# Altium footprint library DIP-JP NO 0607.PCBLIB: 61 footprints (part 2 of 4)
Each footprint in its own frame and in the unit in brackets; x right, y up, seen from the top. Pads: shape width x height; smd on the part's side, far side on the other; paste and mask are expansions set on the pad; w line width, h text height; cw(c..) or ccw(c..) is an arc to the next point about the centre after c.
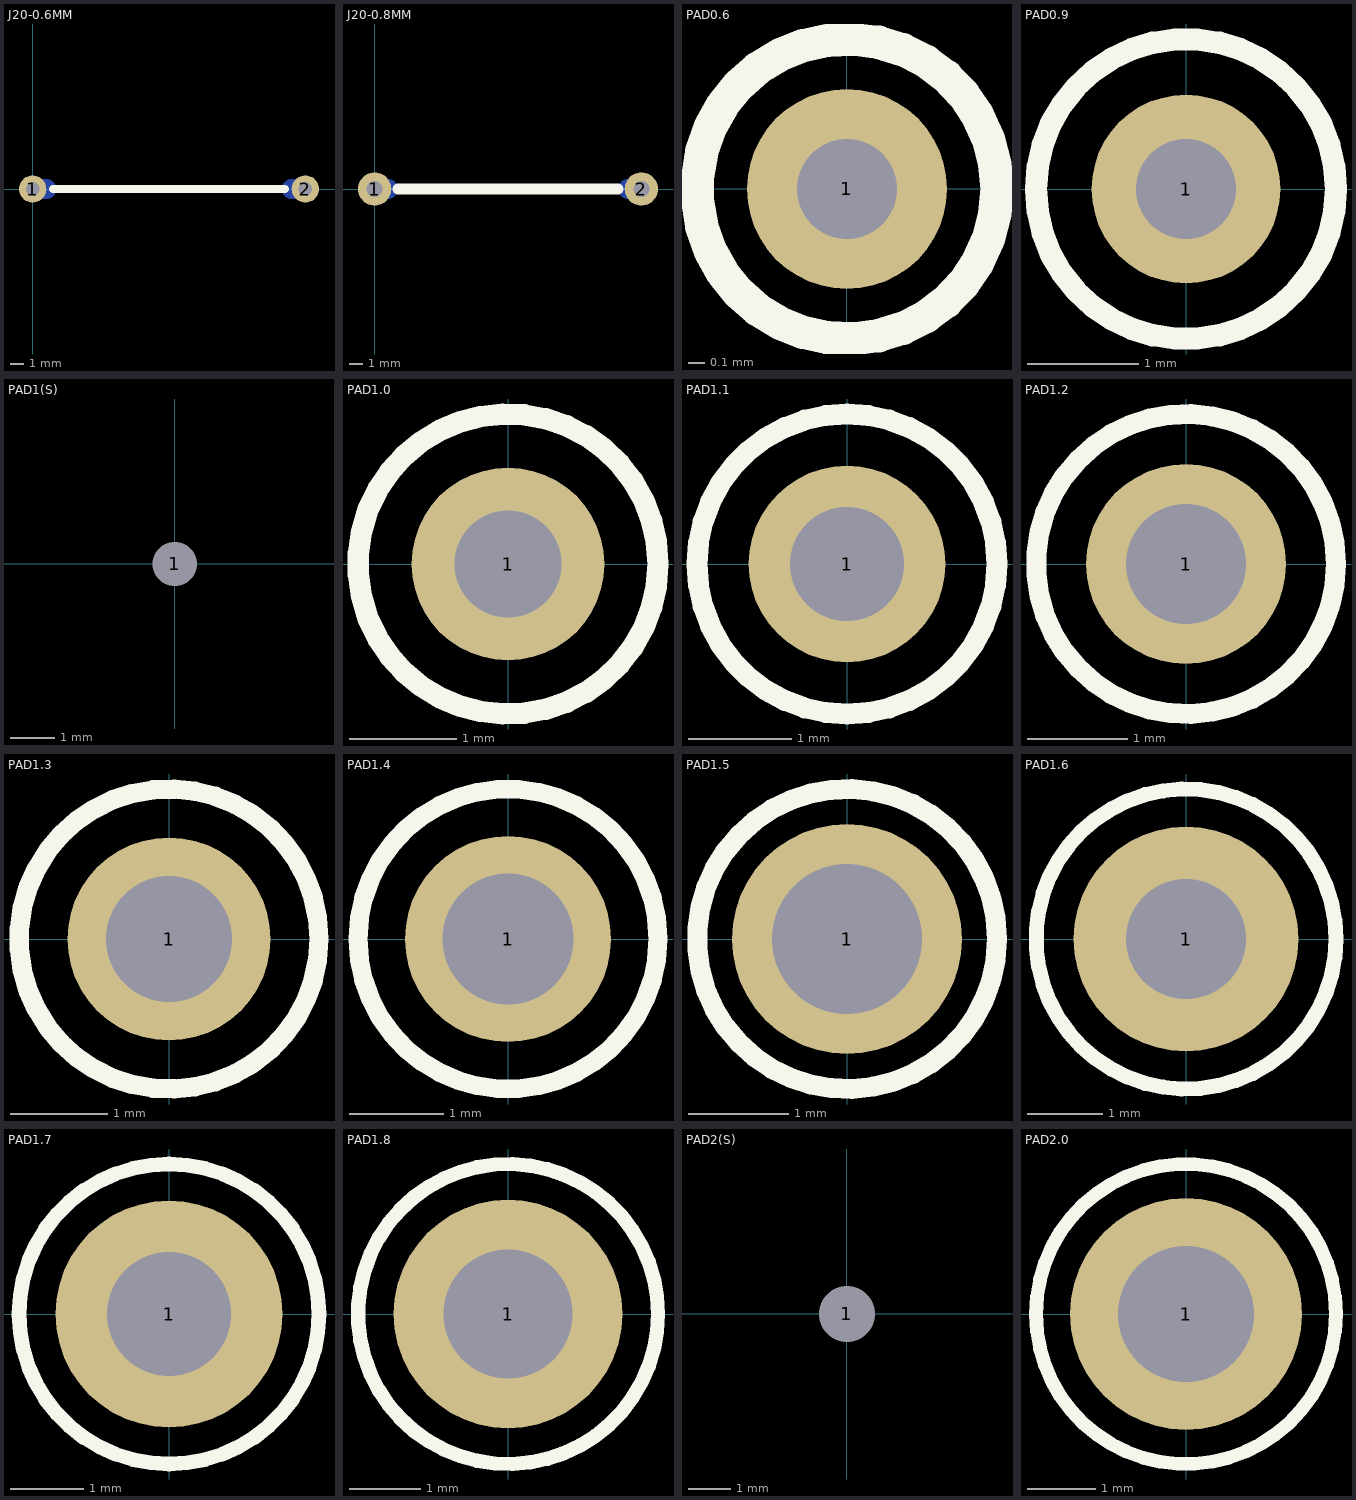
[diagram p1: the footprints below, top view; thin cyan lines are the x and y axes]

## J20-0.6MM [mm]
pads (2):
  round 2 hole 1: 1(0,0) 2(20,0)
Bottom Layer:
  lines w1.5: 0,0 1,0 ; 19,0 20,0
Top Overlay:
  lines w0.6: 1.5,0 18.5,0
Bottom Solder:
  lines w1: 0,0 1,0 ; 19,0 20,0

## J20-0.8MM [mm]
pads (2):
  round 2.5 hole 1.2: 1(0,0) 2(20,0)
Bottom Layer:
  lines w1.5: 0,0 1,0 ; 19,0 20,0
Top Overlay:
  lines w0.8: 1.75,0 18.25,0
Bottom Solder:
  lines w1: 0,0 1,0 ; 19,0 20,0

## PAD0.6 [mm]
pads (1):
  round 1.2 hole 0.6: 1(0,0)
Top Overlay:
  circle w0.2: c0,0 r0.9

## PAD0.9 [mm]
pads (1):
  round 1.7 hole 0.9: 1(0,0)
Top Overlay:
  circle w0.2: c0,0 r1.35

## PAD1(S) [mm]
pads (1):
  round 0.9 hole 1: 1(0,0)
Bottom Solder:
  lines w0.508: -3.25,-0.5 3.25,-0.5 cw(c2.5,-0.5) 2.5,-1.25 -2.25,-1.25 cw(c-2.25,0) -2.25,1.25 2.5,1.25 cw(c2.5,0.5) 3.25,0.5 -3.25,0.5 ; -3.25,0 0,0 ; -3,0.75 3,0.75 ; -2.75,-0.75 3,-0.75
Drill Drawing:
  lines w0.254: -2.032,-0.65 cw(c-2.032,0) -2.032,0.65 2.032,0.65 cw(c2.032,0) 2.032,-0.65 -2.032,-0.65
  text "5.5x1mm" at -3.556,1.016 h1.2

## PAD1.0 [mm]
pads (1):
  round 1.8 hole 1: 1(0,0)
Top Overlay:
  circle w0.2: c0,0 r1.4

## PAD1.1 [mm]
pads (1):
  round 1.9 hole 1.1: 1(0,0)
Top Overlay:
  circle w0.2: c0,0 r1.45

## PAD1.2 [mm]
pads (1):
  round 2 hole 1.2: 1(0,0)
Top Overlay:
  circle w0.2: c0,0 r1.5

## PAD1.3 [mm]
pads (1):
  round 2.1 hole 1.3: 1(0,0)
Top Overlay:
  circle w0.2: c0,0 r1.55

## PAD1.4 [mm]
pads (1):
  round 2.2 hole 1.4: 1(0,0)
Top Overlay:
  circle w0.2: c0,0 r1.6

## PAD1.5 [mm] "5A"
pads (1):
  round 2.3 hole 1.5: 1(0,0)
Top Overlay:
  circle w0.2: c0,0 r1.5

## PAD1.6 [mm]
pads (1):
  round 3 hole 1.6: 1(0,0)
Top Overlay:
  circle w0.2: c0,0 r2

## PAD1.7 [mm]
pads (1):
  round 3.1 hole 1.7: 1(0,0)
Top Overlay:
  circle w0.2: c0,0 r2.05

## PAD1.8 [mm]
pads (1):
  round 3.2 hole 1.8: 1(0,0)
Top Overlay:
  circle w0.2: c0,0 r2.1

## PAD2(S) [mm]
pads (1):
  round 1.27 hole 1.3: 1(0,0)
Bottom Solder:
  lines w0.508: -3.25,-0.5 -0.5,-0.5 ; -3.25,0 3.5,0 ; -3.25,0.25 3.25,0.25 ; -3.25,0.5 3.25,0.5 ; -3,-0.75 -0.5,-0.75 ; -3,0.75 3,0.75 ; -2.5,-1.25 -0.5,-1.25 -0.5,0 0.5,0 ; -2.25,-1.25 cw(c-2.25,0) -2.25,1.25 2.5,1.25 ; 0.5,-1 3,-1 ; 0.5,-0.5 3.25,-0.5 ; 2.25,-1.25 ccw(c2.25,0) 2.25,1.25 ; 2.5,-1.25 0.5,-1.25 0.5,0 ; 0.5,0 0.5,0
Drill Drawing:
  lines w0.254: -2.032,-0.65 cw(c-2.032,0) -2.032,0.65 2.032,0.65 cw(c2.032,0) 2.032,-0.65 -2.032,-0.65
  text "5.5x1mm" at -3.556,1.016 h1.2

## PAD2.0 [mm]
pads (1):
  round 3.4 hole 2: 1(0,0)
Top Overlay:
  circle w0.2: c0,0 r2.2